# Altium schematic symbol library GRM21BR61E106KA73K.SchLib: 1 symbol
Pins are listed as number, name and electrical type; pins without a type are passive.

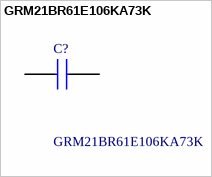
[diagram p0: symbol GRM21BR61E106KA73K]

## GRM21BR61E106KA73K
designator C?
Capacitor GRM21_0.15 L=2.0mm W=1.25mm T=1.25mm; Manufacturer_Name: Murata Electronics; Geometry.Height: 1.45mm; Mouser Part Number: 81-GRM21BR61E106KA3K; Mouser Price/Stock: https://www.mouser.co.uk/ProductDetail/Murata-Electronics/GRM21BR61E106KA73K?qs=hNud%2FORuBR1gmy53p902Zw%3D%3D; Manufacturer_Part_Number: GRM21BR61E106KA73K; Datasheet Link: http://www.murata.com/~/media/webrenewal/support/library/catalog/products/capacitor/mlcc/c02e.pdf
footprint CAPC2012X145N
pins: 1, 2